# EAGLE library part MCP6004 (library LARS_409_MC3)
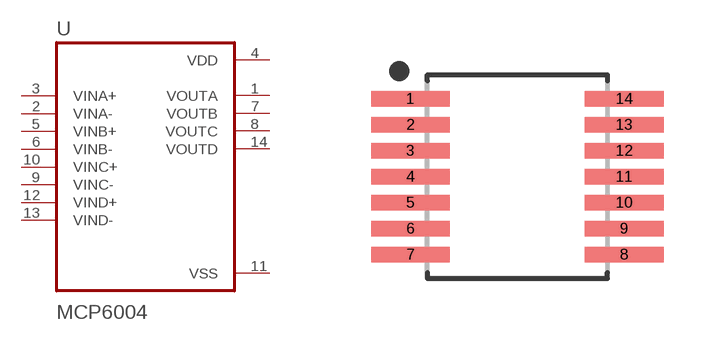
[diagram p5: symbol with the pads of TSSOP-14; footprint TSSOP-14]

Designator prefix U

## MCP6004  [TSSOP-14]
1  VOUTA  out
2  VINA-  in
3  VINA+  in
4  VDD  pwr
5  VINB+  in
6  VINB-  in
7  VOUTB  out
8  VOUTC  out
9  VINC-  in
10  VINC+  in
11  VSS  pwr
12  VIND+  in
13  VIND-  in
14  VOUTD  out

## Footprint TSSOP-14 (pad centres in mm)
14-SOP, 0.65 mm pitch, 6.40 mm span, 5.00 X 4.40 X 1.20 mm body 14-pin SOP package with 0.65 mm pitch, 6.40 mm span with body size 5.00 X 4.40 X 1.20 mm
smd 1.968 x 0.392: 1 -2.673,1.95; 2 -2.673,1.3; 3 -2.673,0.65; 4 -2.673,0; 5 -2.673,-0.65; 6 -2.673,-1.3; 7 -2.673,-1.95; 8 2.673,-1.95; 9 2.673,-1.3; 10 2.673,-0.65; 11 2.673,0; 12 2.673,0.65; 13 2.673,1.3; 14 2.673,1.95